# Altium schematic symbol library HW_ADHERENT_SYSCTRL_R1_L2.SCHLIB: 1987 symbols (part 38 of 38)
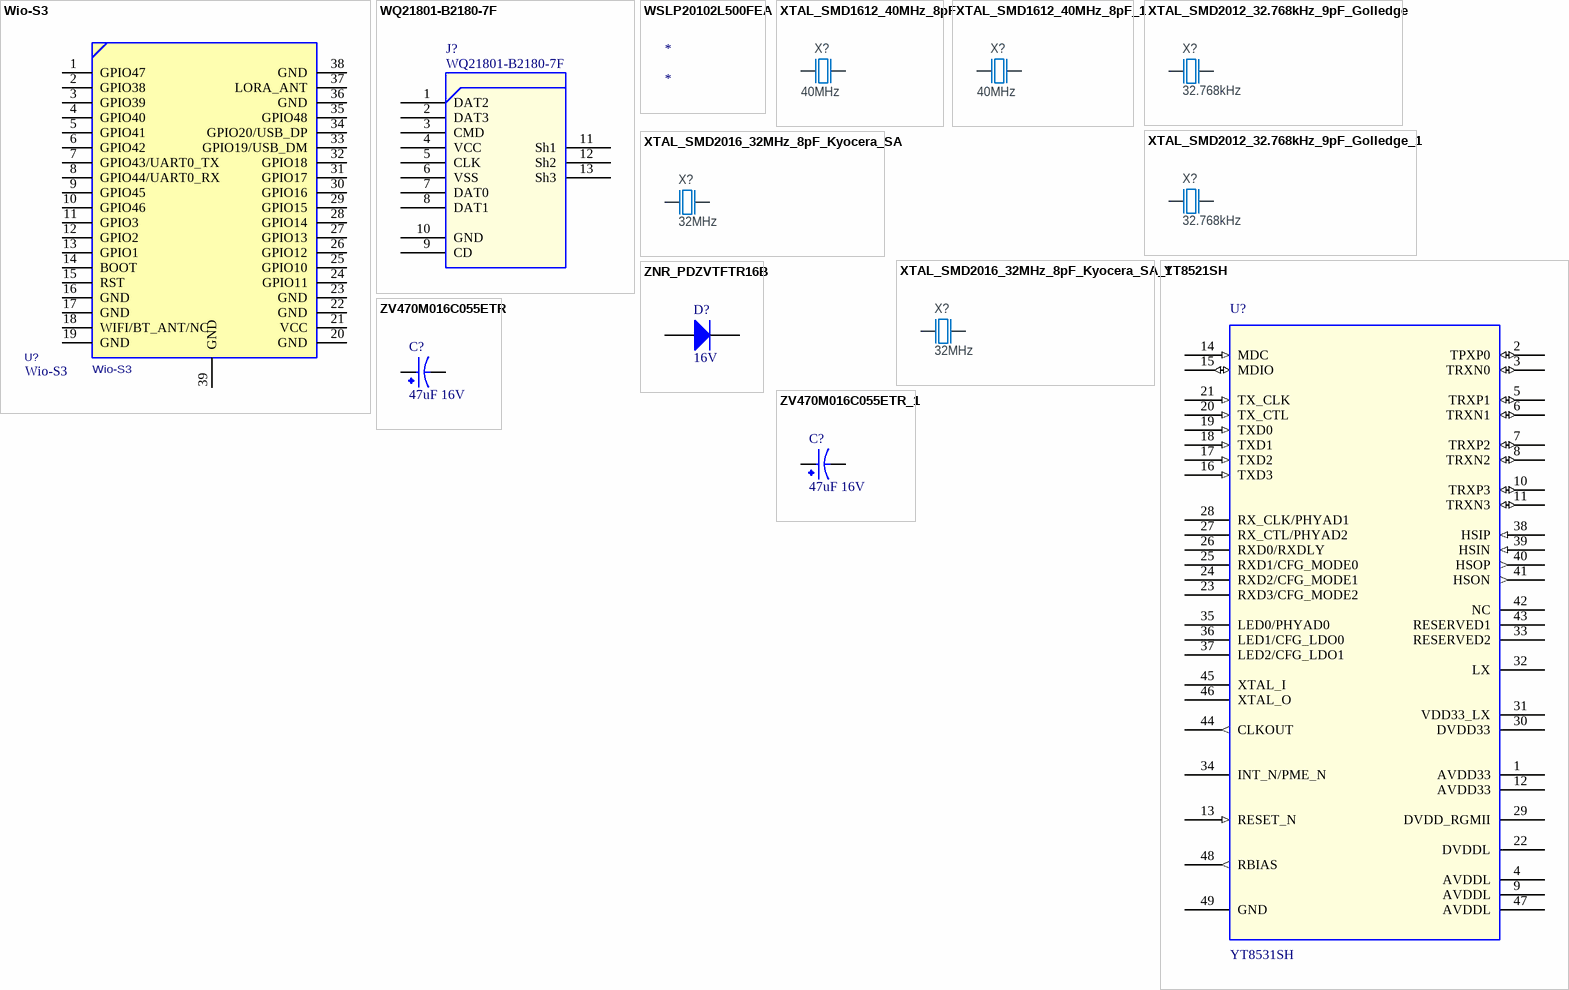
[diagram p99: symbols Wio-S3 to ZV470M016C055ETR_1]

## XTAL_SMD1612_40MHz_8pF_1
designator X?, comment 40MHz
XTAL SMD 1612, 40MHz, Cl=8pF, Total Tol: ±10ppm; Part Number: XTAL_SMD1612_40MHz_8pF; Manufacturer: Abracon Corporation; Manufacturer Part Number: ABM12W-40.0000MHZ-8-B1U-T3; Part number NEMS: 101600095; Pad Count: 4; Note: XTAL SMD 40.000MHz 8pF; Artikkelnr Noca: N.A.; Component Status: Active; Component Class: Oscillators; Author: prbu; ComponentLink1URL: https://www.digikey.com/en/products/detail/abracon-llc/ABM12W-40-0000MHZ-8-B1U-T3/7172762; ComponentLink1Description: Datasheet; ComponentLink2URL: https://www.mouser.com/ProductDetail/ABRACON/ABM12W-400000MHZ-8-B1U-T3?qs=5aG0NVq1C4xvMMZKQsjLcA%3D%3D; ComponentLink2Description: Supplier link; HelpURL: N.A.; Footprint Doc: XTAL_1612; LatestRevisionDate: 2022-01-20; Published: 2022-01-20; Value: 40MHz; Supplier 1: Digi-Key; Supplier Part Number 1: 535-13991-2-ND; Supplier 2: N.A.; Supplier Part Number 2: N.A.; Part number IPS: N.A.; Part number Norautron: N.A.; PartId: 101600095
footprint BT-XTAL_1612
pins: 1 inp, 2 GND hidden to GND, 3 out, 4 GND hidden to GND

## XTAL_SMD2012_32.768kHz_9pF_Golledge
designator X?, comment 32.768kHz
XTAL SMD 2012, 32.768kHz, 9pF, ±20ppm; Part Number: XTAL_SMD2012_32.768kHz_9pF_Golledge; Manufacturer: Golledge; Manufacturer Part Number: MP07668; Part number Norautron: 26470047; Part number NEMS: 101600017; Pad Count: 2; Artikkelnr Noca: N.A.; Note: XTAL SMD 32.768kHz; Component Status: Active; Value: 32.768kHz; Footprint Doc: XTAL_2012; Component Class: Oscillators; Author: rsk; ComponentLink1Description: Datasheet; ComponentLink1URL: N.A.; ComponentLink2Description: Supplier link; ComponentLink2URL: N.A.; HelpURL: \\hizz\pro\app9717\Datasheet\crystals\Golledge\mp07668.pdf; LatestRevisionDate: 2016-11-02; PartId: 101600017; Part number IPS: N.A.; Published: 2016-11-02; Supplier 1: Link Nordic; Supplier 2: N.A.; Supplier Part Number 1: N.A.; Supplier Part Number 2: N.A.
footprint XTAL_2012
pins: 1 inp, 2 out

## XTAL_SMD2012_32.768kHz_9pF_Golledge_1
designator X?, comment 32.768kHz
XTAL SMD 2012, 32.768kHz, 9pF, ±20ppm; Part Number: XTAL_SMD2012_32.768kHz_9pF_Golledge; Manufacturer: Golledge; Manufacturer Part Number: MP07668; Part number Norautron: 26470047; Part number NEMS: 101600017; Pad Count: 2; Artikkelnr Noca: N.A.; Note: XTAL SMD 32.768kHz; Component Status: Active; Value: 32.768kHz; Footprint Doc: XTAL_2012; Component Class: Oscillators; Author: rsk; ComponentLink1Description: Datasheet; ComponentLink1URL: N.A.; ComponentLink2Description: Supplier link; ComponentLink2URL: N.A.; HelpURL: \\hizz\pro\app9717\Datasheet\crystals\Golledge\mp07668.pdf; LatestRevisionDate: 2016-11-02; PartId: 101600017; Part number IPS: N.A.; Published: 2016-11-02; Supplier 1: Link Nordic; Supplier 2: N.A.; Supplier Part Number 1: N.A.; Supplier Part Number 2: N.A.
footprint XTAL_2012
pins: 1 inp, 2 out

## XTAL_SMD2016_32MHz_8pF_Kyocera_SA
designator X?, comment 32MHz
XTAL SMD 2016, 32MHz, Cl=8pF, ±30ppm, -40°C ~ 105°C; Part Number: XTAL_SMD2016_32MHz_8pF_Kyocera_SA; Manufacturer: Kyocera; Manufacturer Part Number: CX2016SA32000D0WRQG1; Part number NEMS: 101600100; Pad Count: 4; Artikkelnr Noca: N.A.; Note: XTAL SMD 32.000MHz; Component Status: Active; Value: 32MHz; Footprint Doc: XTAL_2016; Component Class: Oscillators; Author: hany; ComponentLink1Description: Datasheet; ComponentLink1URL: N.A.; ComponentLink2Description: Supplier link; ComponentLink2URL: N.A.; HelpURL: N.A.; LatestRevisionDate: 2022-09-19; PartId: 101600100; Part number IPS: N.A.; Part number Norautron: N.A.; Published: 2022-09-19; Supplier 1: N.A.; Supplier 2: N.A.; Supplier Part Number 1: N.A.; Supplier Part Number 2: N.A.
footprint BT-XTAL_2016
pins: 1 inp, 2 GND hidden to GND, 3 out, 4 GND hidden to GND

## XTAL_SMD2016_32MHz_8pF_Kyocera_SA_1
designator X?, comment 32MHz
XTAL SMD 2016, 32MHz, Cl=8pF, ±30ppm, -40°C ~ 105°C; Part Number: XTAL_SMD2016_32MHz_8pF_Kyocera_SA; Manufacturer: Kyocera; Manufacturer Part Number: CX2016SA32000D0WRQG1; Part number NEMS: 101600100; Pad Count: 4; Artikkelnr Noca: N.A.; Note: XTAL SMD 32.000MHz; Component Status: Active; Value: 32MHz; Footprint Doc: XTAL_2016; Component Class: Oscillators; Author: hany; ComponentLink1Description: Datasheet; ComponentLink1URL: N.A.; ComponentLink2Description: Supplier link; ComponentLink2URL: N.A.; HelpURL: N.A.; LatestRevisionDate: 2022-09-19; PartId: 101600100; Part number IPS: N.A.; Part number Norautron: N.A.; Published: 2022-09-19; Supplier 1: N.A.; Supplier 2: N.A.; Supplier Part Number 1: N.A.; Supplier Part Number 2: N.A.
footprint BT-XTAL_2016
pins: 1 inp, 2 GND hidden to GND, 3 out, 4 GND hidden to GND

## YT8521SH
designator U?, comment YT8531SH
IC,Ethernet Physical Layer Transceiver,10/100/1000M,-40¡æ~+85¡æ,SMD,QFN48,Motorcomm; Myir P/N: 20107.80039; PCB Footprint: QFN48-0_4; Part Type: Interface; Manufacturer: Motorcomm; Manufacturer P/N: YT8531SH; Reserve Value: YT8531SH; Datasheet: YT8531SH_YT8531SC_Datasheet_draft.pdf
footprint QFN48
footprint QFN48-0_4
pins: 1 AVDD33 (power), 2 TPXP0 (io), 3 TRXN0 (io), 4 AVDDL (power), 5 TRXP1 (io), 6 TRXN1 (io), 7 TRXP2 (io), 8 TRXN2 (io), 9 AVDDL (power), 10 TRXP3 (io), 11 TRXN3 (io), 12 AVDD33 (power), 13 RESET_N (in), 14 MDC (in), 15 MDIO (io), 16 TXD3 (in), 17 TXD2 (in), 18 TXD1 (in), 19 TXD0 (in), 20 TX_CTL (in), 21 TX_CLK (in), 22 DVDDL (power), 23 RXD3/CFG_MODE2, 24 RXD2/CFG_MODE1, 25 RXD1/CFG_MODE0, 26 RXD0/RXDLY, 27 RX_CTL/PHYAD2, 28 RX_CLK/PHYAD1, 29 DVDD_RGMII (power), 30 DVDD33 (power), 31 VDD33_LX (power), 32 LX, 33 RESERVED2, 34 INT_N/PME_N, 35 LED0/PHYAD0, 36 LED1/CFG_LDO0, 37 LED2/CFG_LDO1, 38 HSIP (in), 39 HSIN (in), 40 HSOP (out), 41 HSON (out), 42 NC, 43 RESERVED1 (power), 44 CLKOUT (out), 45 XTAL_I, 46 XTAL_O, 47 AVDDL (power), 48 RBIAS (out), 49 GND (power)

## ZNR_PDZVTFTR16B
designator D?, comment 16V
DIODE ZENER 16V 1W SOD128; Manufacturer Part Number: PDZVTFTR16B; Value: 16V 1W; Order Code: DIGI : PDZVTFTR16BCT-ND
footprint SOD128_PMEG10030ELPX
pins: 1 A, 2 K

## ZV470M016C055ETR
designator C?, comment value 47uF 16V  (hidden comment: 47uF 16V ±20% SMD,D5xL5.5mm Aluminum Electrolytic Capacitors - SMD ROHS)
Manufacturer Part Number: ZV470M016C055ETR; Order Code: LCSC: C84357; LCSC Manufacturer Part Number: ZV470M016C055ETR; LCSC Part Number: C84357
footprint CAP_16SVPG47M
pins: 1, 2

## ZV470M016C055ETR_1
designator C?, comment value 47uF 16V  (hidden comment: 47uF 16V ±20% SMD,D5xL5.5mm Aluminum Electrolytic Capacitors - SMD ROHS)
Manufacturer Part Number: ZV470M016C055ETR; Order Code: LCSC: C84357; LCSC Manufacturer Part Number: ZV470M016C055ETR; LCSC Part Number: C84357
footprint CAP_16SVPG47M
pins: 1, 2